# Altium footprint library Switches.PcbLib: 2 footprints
Each footprint in its own frame and in the unit in brackets; x right, y up, seen from the top. Pads: shape width x height; smd on the part's side, far side on the other; paste and mask are expansions set on the pad; w line width, h text height; cw(c..) or ccw(c..) is an arc to the next point about the centre after c.
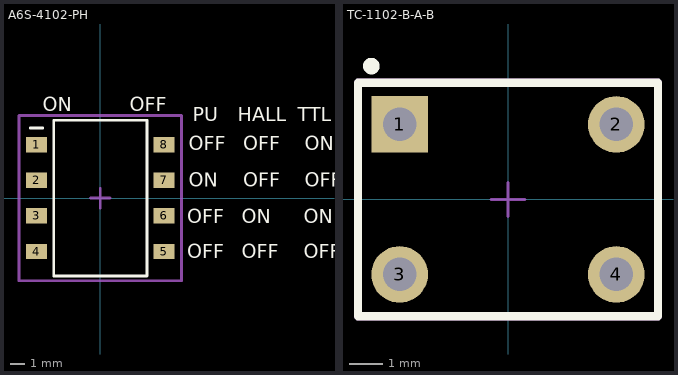
[diagram p0: the footprints below, top view; thin cyan lines are the x and y axes]

## A6S-4102-PH [mm]
pads (8):
  rect 1.5x1.1 smd mask+0.15: 1(-4.55,3.81) 2(-4.55,1.27) 3(-4.55,-1.27) 4(-4.55,-3.81) 5(4.55,-3.81) 6(4.55,-1.27) 7(4.55,1.27) 8(4.55,3.81)
Top Overlay:
  lines w0.2: -5,5 -4.1,5 ; -3.325,-5.55 -3.325,5.55 3.325,5.55 3.325,-5.55 -3.325,-5.55
  text "OFF" at 14.5,-4.3 h1
  text "OFF" at 10.1,-4.3 h1
  text "OFF" at 6.2,-4.3 h1
  text "ON" at 14.5,-1.8 h1
  text "ON" at 10.1,-1.8 h1
  text "OFF" at 6.2,-1.8 h1
  text "OFF" at 14.6,0.8 h1
  text "OFF" at 10.2,0.8 h1
  text "ON" at 6.3,0.8 h1
  text "ON" at 14.6,3.4 h1
  text "OFF" at 10.2,3.4 h1
  text "OFF" at 6.3,3.4 h1
  text "TTL" at 14.1,5.5 h1
  text "PU" at 6.6,5.5 h1
  text "HALL" at 9.8,5.5 h1
  text "OFF" at 2.1,6.2 h1
  text "ON" at -4.1,6.2 h1
Top Courtyard:
  lines w0.2: -0.7,0 0,0 ; 0,-0.7 0,0 ; 0,0.7 0,0 ; 0.7,0 0,0 ; -5.8,-5.9 -5.8,5.9 5.8,5.9 5.8,-5.9 -5.8,-5.9
  text "'.Designator'" at -5.6,3.7 h1
3D body "A6S-4102-PH.stp": height 3.8, standoff 0, extent -4.9,-5.55 4.9,5.55

## TC-1102-B-A-B [mm] "Tactile 6x6mm true hole"
pads (4):
  rect 1.7x1.7 hole 1: 1(-3.25,2.25)
  round 1.7 hole 1: 2(3.25,2.25) 3(-3.25,-2.25) 4(3.25,-2.25)
Top Overlay:
  circle w0.25: c-4.1,4 r0.125
  lines w0.254: -4.5,-3.5 -4.5,3.5 4.5,3.5 4.5,-3.5 -4.5,-3.5
Top Courtyard:
  lines w0.1: -0.5,0 0.5,0 ; 0,-0.5 0,0.5
  lines w0.254: -4.5,-3.5 4.5,-3.5 4.5,3.5 -4.5,3.5 -4.5,-3.5
  text "'.Designator'" at -3.4,-2.3 h0.5
3D body "User Library-Tactile switch 6x6x5mm.STEP": height 5.02, standoff -3.5, extent -3.871,-3.015 3.871,3.015